# EAGLE library part MICROSD (library MyLib)
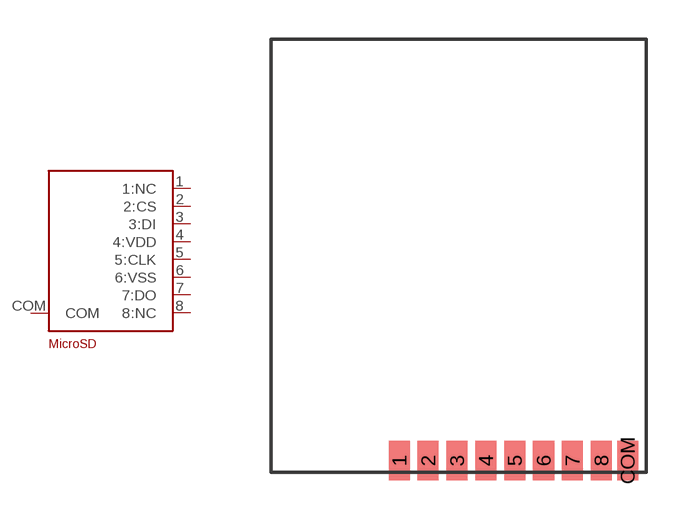
[diagram p2: symbol with the pads of MICROSD; footprint MICROSD]

Designator prefix -

## MICROSD  [MICROSD]
1  1:NC
2  2:CS
3  3:DI
4  4:VDD
5  5:CLK
6  6:VSS
7  7:DO
8  8:NC
COM  COM

## Footprint MICROSD (pad centres in mm)
smd 0.8 x 1.5: 1 -9.42,0.75; 2 -8.32,0.75; 3 -7.22,0.75; 4 -6.12,0.75; 5 -5.02,0.75; 6 -3.92,0.75; 7 -2.82,0.75; 8 -1.72,0.75; COM -0.72,0.75